# Altium schematic symbol library SCH - MCU - STM32 - ST MICROELECTRONICS STM32MP133AAGX TFBGA289.SchLib: 1 symbol
Pins are listed as number, name and electrical type; pins without a type are passive.

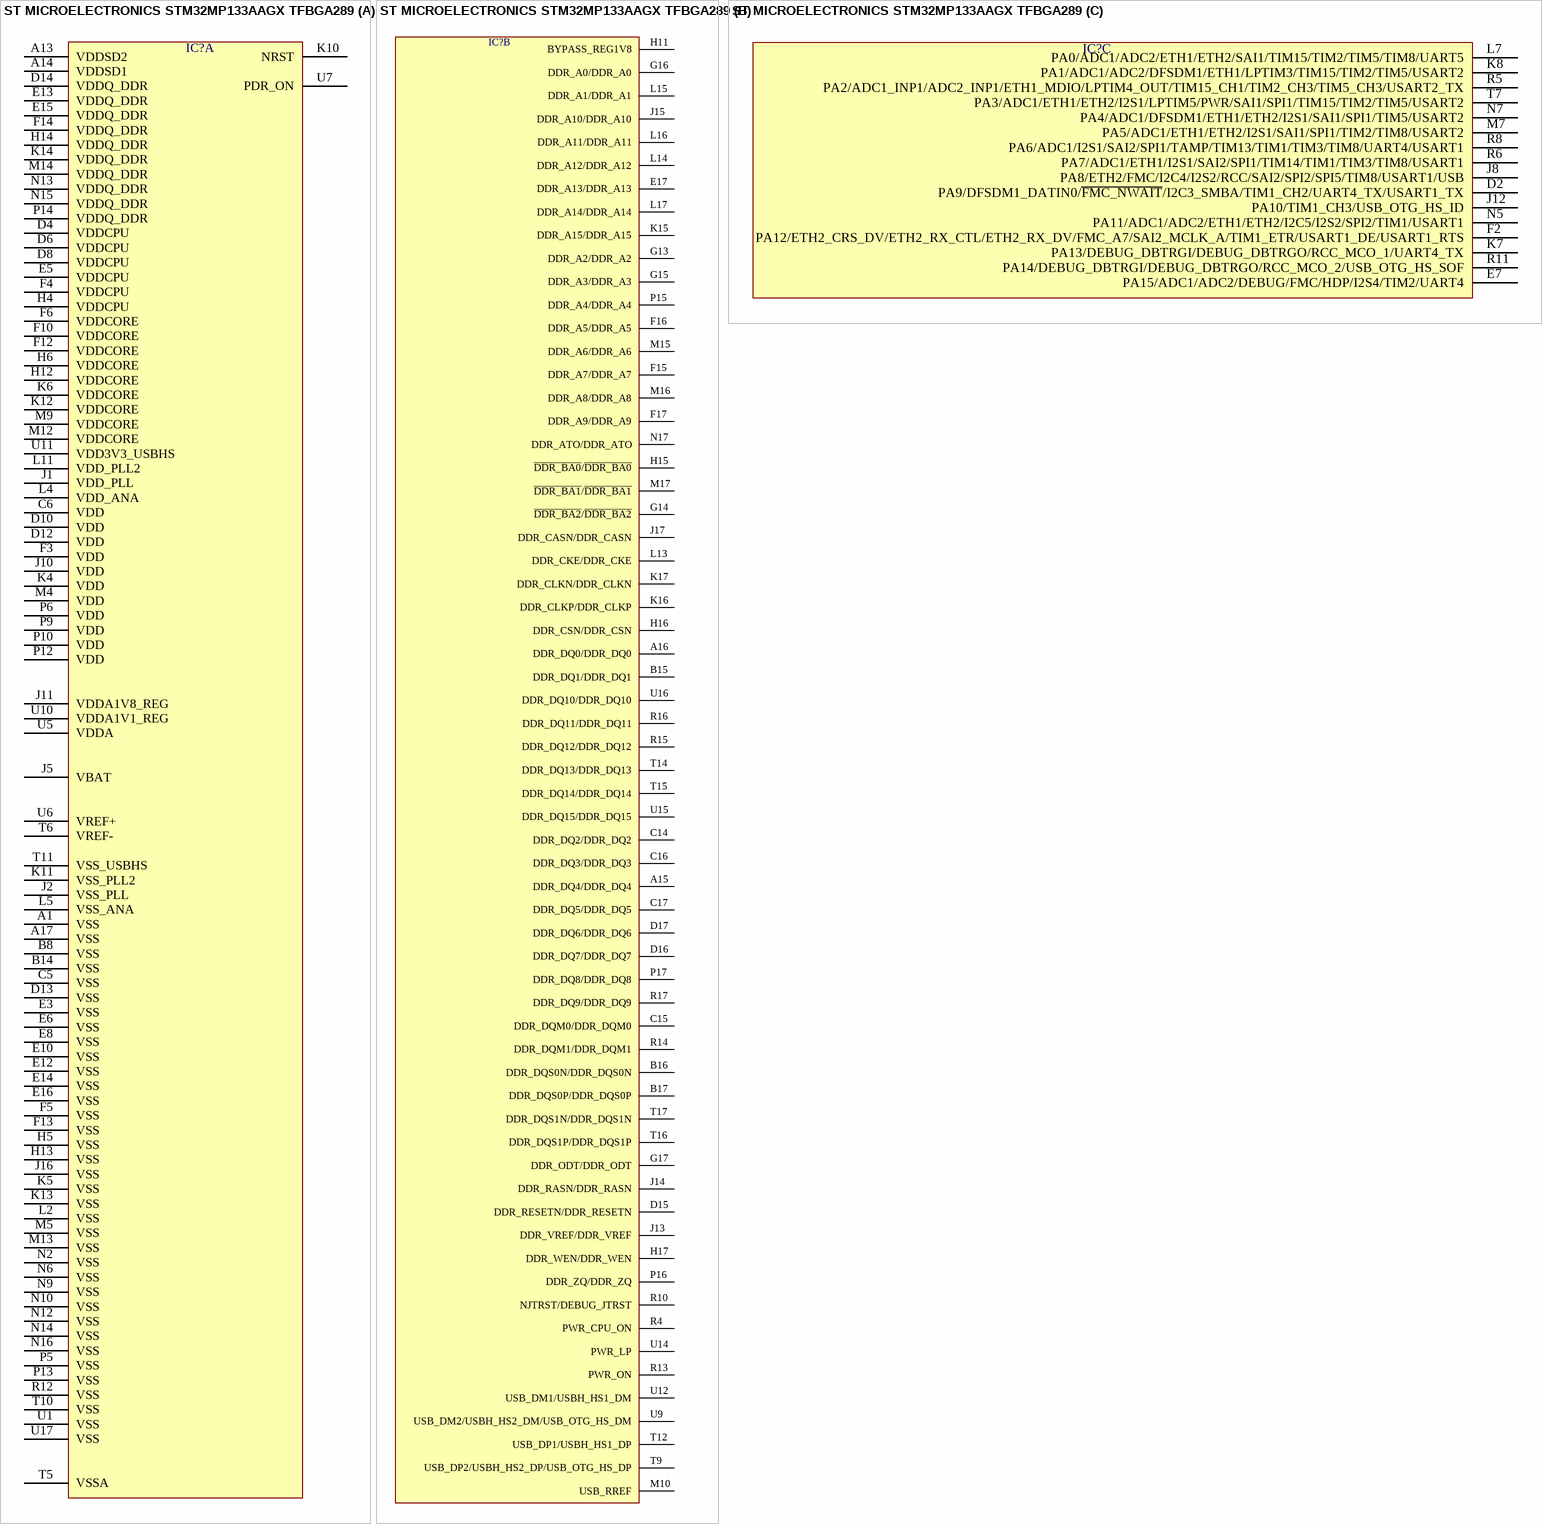
[diagram p0: symbol ST MICROELECTRONICS STM32MP133AAGX TFBGA289]

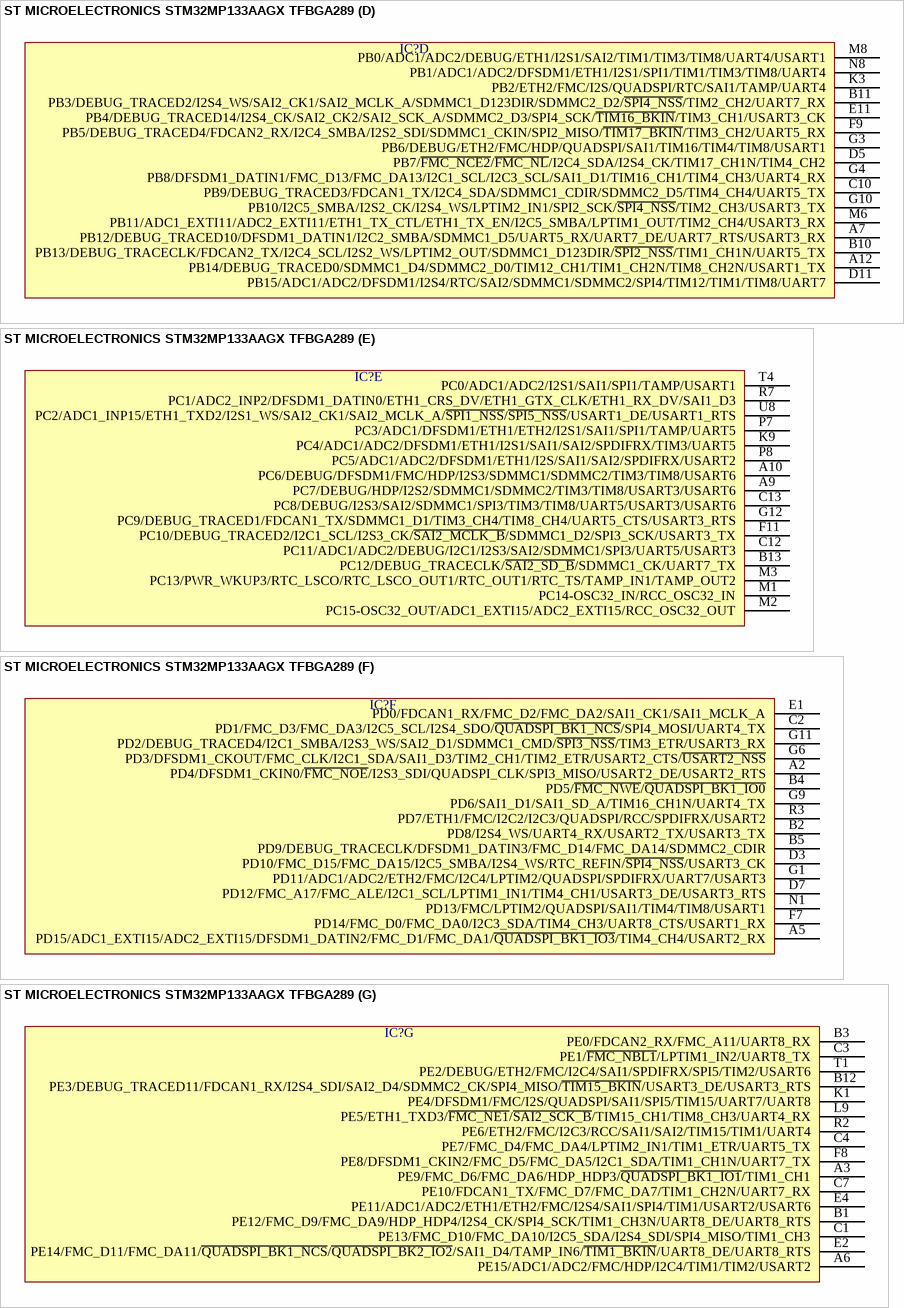
[diagram p1: symbol ST MICROELECTRONICS STM32MP133AAGX TFBGA289]

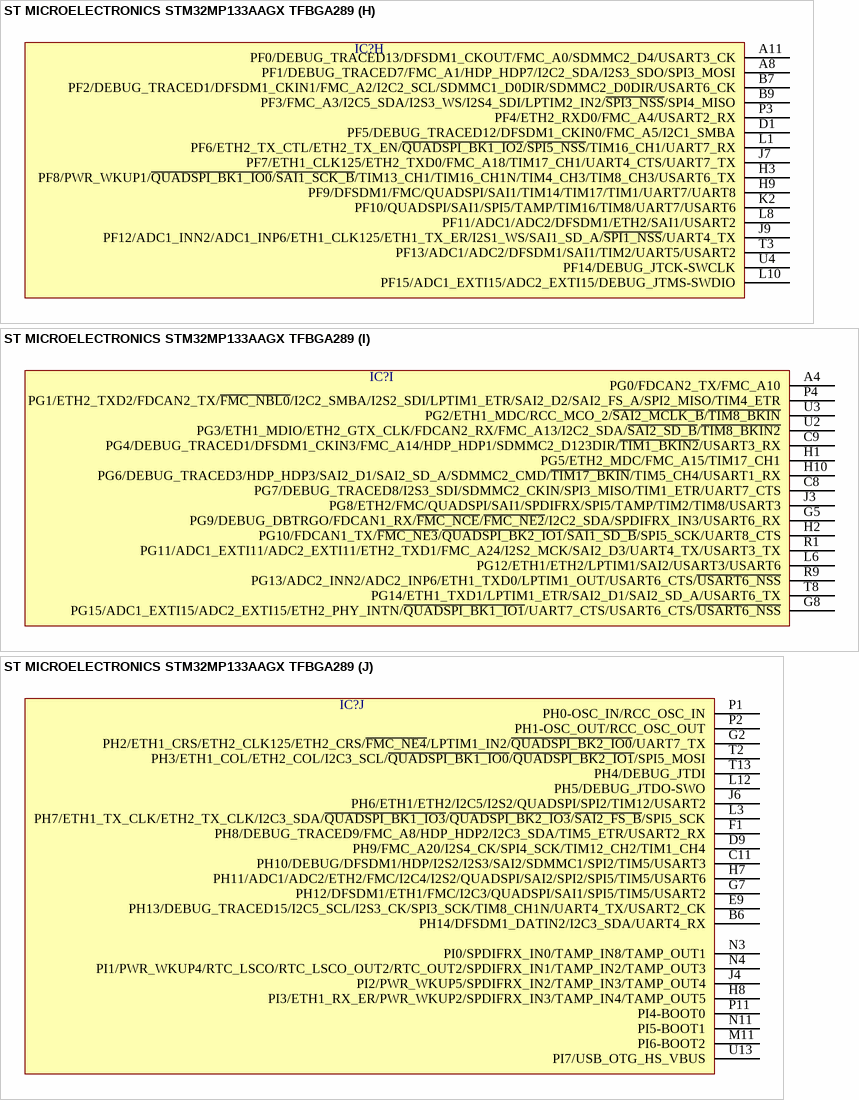
[diagram p2: symbol ST MICROELECTRONICS STM32MP133AAGX TFBGA289]

## ST MICROELECTRONICS STM32MP133AAGX TFBGA289
designator IC?  (value not drawn)
part A pins: A1 VSS, A13 VDDSD2, A14 VDDSD1, A17 VSS, B8 VSS, B14 VSS, C5 VSS, C6 VDD, D4 VDDCPU, D6 VDDCPU, D8 VDDCPU, D10 VDD, D12 VDD, D13 VSS, D14 VDDQ_DDR, E3 VSS, E5 VDDCPU, E6 VSS, E8 VSS, E10 VSS, E12 VSS, E13 VDDQ_DDR, E14 VSS, E15 VDDQ_DDR, E16 VSS, F3 VDD, F4 VDDCPU, F5 VSS, F6 VDDCORE, F10 VDDCORE, F12 VDDCORE, F13 VSS, F14 VDDQ_DDR, H4 VDDCPU, H5 VSS, H6 VDDCORE, H12 VDDCORE, H13 VSS, H14 VDDQ_DDR, J1 VDD_PLL, J2 VSS_PLL, J5 VBAT, J10 VDD, J11 VDDA1V8_REG, J16 VSS, K4 VDD, K5 VSS, K6 VDDCORE, K10 NRST, K11 VSS_PLL2, K12 VDDCORE, K13 VSS, K14 VDDQ_DDR, L2 VSS, L4 VDD_ANA, L5 VSS_ANA, L11 VDD_PLL2, M4 VDD, M5 VSS, M9 VDDCORE, M12 VDDCORE, M13 VSS, M14 VDDQ_DDR, N2 VSS, N6 VSS, N9 VSS, N10 VSS, N12 VSS, N13 VDDQ_DDR, N14 VSS, N15 VDDQ_DDR, N16 VSS, P5 VSS, P6 VDD, P9 VDD, P10 VDD, P12 VDD, P13 VSS, P14 VDDQ_DDR, R12 VSS, T5 VSSA, T6 VREF-, T10 VSS, T11 VSS_USBHS, U1 VSS, U5 VDDA, U6 VREF+, U7 PDR_ON, U10 VDDA1V1_REG, U11 VDD3V3_USBHS, U17 VSS
part B pins: A15 DDR_DQ4/DDR_DQ4, A16 DDR_DQ0/DDR_DQ0, B15 DDR_DQ1/DDR_DQ1, B16 DDR_DQS0N/DDR_DQS0N, B17 DDR_DQS0P/DDR_DQS0P, C14 DDR_DQ2/DDR_DQ2, C15 DDR_DQM0/DDR_DQM0, C16 DDR_DQ3/DDR_DQ3, C17 DDR_DQ5/DDR_DQ5, D15 DDR_RESETN/DDR_RESETN, D16 DDR_DQ7/DDR_DQ7, D17 DDR_DQ6/DDR_DQ6, E17 DDR_A13/DDR_A13, F15 DDR_A7/DDR_A7, F16 DDR_A5/DDR_A5, F17 DDR_A9/DDR_A9, G13 DDR_A2/DDR_A2, G14 ~{DDR_BA2}/~{DDR_BA2}, G15 DDR_A3/DDR_A3, G16 DDR_A0/DDR_A0, G17 DDR_ODT/DDR_ODT, H11 BYPASS_REG1V8, H15 ~{DDR_BA0}/~{DDR_BA0}, H16 DDR_CSN/DDR_CSN, H17 DDR_WEN/DDR_WEN, J13 DDR_VREF/DDR_VREF, J14 DDR_RASN/DDR_RASN, J15 DDR_A10/DDR_A10, J17 DDR_CASN/DDR_CASN, K15 DDR_A15/DDR_A15, K16 DDR_CLKP/DDR_CLKP, K17 DDR_CLKN/DDR_CLKN, L13 DDR_CKE/DDR_CKE, L14 DDR_A12/DDR_A12, L15 DDR_A1/DDR_A1, L16 DDR_A11/DDR_A11, L17 DDR_A14/DDR_A14, M10 USB_RREF, M15 DDR_A6/DDR_A6, M16 DDR_A8/DDR_A8, M17 ~{DDR_BA1}/~{DDR_BA1}, N17 DDR_ATO/DDR_ATO, P15 DDR_A4/DDR_A4, P16 DDR_ZQ/DDR_ZQ, P17 DDR_DQ8/DDR_DQ8, R4 PWR_CPU_ON, R10 NJTRST/DEBUG_JTRST, R13 PWR_ON, R14 DDR_DQM1/DDR_DQM1, R15 DDR_DQ12/DDR_DQ12, R16 DDR_DQ11/DDR_DQ11, R17 DDR_DQ9/DDR_DQ9, T9 USB_DP2/USBH_HS2_DP/USB_OTG_HS_DP, T12 USB_DP1/USBH_HS1_DP, T14 DDR_DQ13/DDR_DQ13, T15 DDR_DQ14/DDR_DQ14, T16 DDR_DQS1P/DDR_DQS1P, T17 DDR_DQS1N/DDR_DQS1N, U9 USB_DM2/USBH_HS2_DM/USB_OTG_HS_DM, U12 USB_DM1/USBH_HS1_DM, U14 PWR_LP, U15 DDR_DQ15/DDR_DQ15, U16 DDR_DQ10/DDR_DQ10
part C pins: D2 PA9/DFSDM1_DATIN0/~{FMC_NWAIT}/I2C3_SMBA/TIM1_CH2/UART4_TX/USART1_TX, E7 PA15/ADC1/ADC2/DEBUG/FMC/HDP/I2S4/TIM2/UART4, F2 PA12/ETH2_CRS_DV/ETH2_RX_CTL/ETH2_RX_DV/FMC_A7/SAI2_MCLK_A/TIM1_ETR/USART1_DE/USART1_RTS, J8 PA8/ETH2/FMC/I2C4/I2S2/RCC/SAI2/SPI2/SPI5/TIM8/USART1/USB, J12 PA10/TIM1_CH3/USB_OTG_HS_ID, K7 PA13/DEBUG_DBTRGI/DEBUG_DBTRGO/RCC_MCO_1/UART4_TX, K8 PA1/ADC1/ADC2/DFSDM1/ETH1/LPTIM3/TIM15/TIM2/TIM5/USART2, L7 PA0/ADC1/ADC2/ETH1/ETH2/SAI1/TIM15/TIM2/TIM5/TIM8/UART5, M7 PA5/ADC1/ETH1/ETH2/I2S1/SAI1/SPI1/TIM2/TIM8/USART2, N5 PA11/ADC1/ADC2/ETH1/ETH2/I2C5/I2S2/SPI2/TIM1/USART1, N7 PA4/ADC1/DFSDM1/ETH1/ETH2/I2S1/SAI1/SPI1/TIM5/USART2, R5 PA2/ADC1_INP1/ADC2_INP1/ETH1_MDIO/LPTIM4_OUT/TIM15_CH1/TIM2_CH3/TIM5_CH3/USART2_TX, R6 PA7/ADC1/ETH1/I2S1/SAI2/SPI1/TIM14/TIM1/TIM3/TIM8/USART1, R8 PA6/ADC1/I2S1/SAI2/SPI1/TAMP/TIM13/TIM1/TIM3/TIM8/UART4/USART1, R11 PA14/DEBUG_DBTRGI/DEBUG_DBTRGO/RCC_MCO_2/USB_OTG_HS_SOF, T7 PA3/ADC1/ETH1/ETH2/I2S1/LPTIM5/PWR/SAI1/SPI1/TIM15/TIM2/TIM5/USART2
part D pins: A7 PB12/DEBUG_TRACED10/DFSDM1_DATIN1/I2C2_SMBA/SDMMC1_D5/UART5_RX/UART7_DE/UART7_RTS/USART3_RX, A12 PB14/DEBUG_TRACED0/SDMMC1_D4/SDMMC2_D0/TIM12_CH1/TIM1_CH2N/TIM8_CH2N/USART1_TX, B10 PB13/DEBUG_TRACECLK/FDCAN2_TX/I2C4_SCL/I2S2_WS/LPTIM2_OUT/SDMMC1_D123DIR/~{SPI2_NSS}/TIM1_CH1N/UART5_TX, B11 PB3/DEBUG_TRACED2/I2S4_WS/SAI2_CK1/SAI2_MCLK_A/SDMMC1_D123DIR/SDMMC2_D2/~{SPI4_NSS}/TIM2_CH2/UART7_RX, C10 PB9/DEBUG_TRACED3/FDCAN1_TX/I2C4_SDA/SDMMC1_CDIR/SDMMC2_D5/TIM4_CH4/UART5_TX, D5 PB7/~{FMC_NCE2}/~{FMC_NL}/I2C4_SDA/I2S4_CK/TIM17_CH1N/TIM4_CH2, D11 PB15/ADC1/ADC2/DFSDM1/I2S4/RTC/SAI2/SDMMC1/SDMMC2/SPI4/TIM12/TIM1/TIM8/UART7, E11 PB4/DEBUG_TRACED14/I2S4_CK/SAI2_CK2/SAI2_SCK_A/SDMMC2_D3/SPI4_SCK/~{TIM16_BKIN}/TIM3_CH1/USART3_CK, F9 PB5/DEBUG_TRACED4/FDCAN2_RX/I2C4_SMBA/I2S2_SDI/SDMMC1_CKIN/SPI2_MISO/~{TIM17_BKIN}/TIM3_CH2/UART5_RX, G3 PB6/DEBUG/ETH2/FMC/HDP/QUADSPI/SAI1/TIM16/TIM4/TIM8/USART1, G4 PB8/DFSDM1_DATIN1/FMC_D13/FMC_DA13/I2C1_SCL/I2C3_SCL/SAI1_D1/TIM16_CH1/TIM4_CH3/UART4_RX, G10 PB10/I2C5_SMBA/I2S2_CK/I2S4_WS/LPTIM2_IN1/SPI2_SCK/~{SPI4_NSS}/TIM2_CH3/USART3_TX, K3 PB2/ETH2/FMC/I2S/QUADSPI/RTC/SAI1/TAMP/UART4, M6 PB11/ADC1_EXTI11/ADC2_EXTI11/ETH1_TX_CTL/ETH1_TX_EN/I2C5_SMBA/LPTIM1_OUT/TIM2_CH4/USART3_RX, M8 PB0/ADC1/ADC2/DEBUG/ETH1/I2S1/SAI2/TIM1/TIM3/TIM8/UART4/USART1, N8 PB1/ADC1/ADC2/DFSDM1/ETH1/I2S1/SPI1/TIM1/TIM3/TIM8/UART4
part E pins: A9 PC7/DEBUG/HDP/I2S2/SDMMC1/SDMMC2/TIM3/TIM8/USART3/USART6, A10 PC6/DEBUG/DFSDM1/FMC/HDP/I2S3/SDMMC1/SDMMC2/TIM3/TIM8/USART6, B13 PC12/DEBUG_TRACECLK/~{SAI2_SD_B}/SDMMC1_CK/UART7_TX, C12 PC11/ADC1/ADC2/DEBUG/I2C1/I2S3/SAI2/SDMMC1/SPI3/UART5/USART3, C13 PC8/DEBUG/I2S3/SAI2/SDMMC1/SPI3/TIM3/TIM8/UART5/USART3/USART6, F11 PC10/DEBUG_TRACED2/I2C1_SCL/I2S3_CK/~{SAI2_MCLK_B}/SDMMC1_D2/SPI3_SCK/USART3_TX, G12 PC9/DEBUG_TRACED1/FDCAN1_TX/SDMMC1_D1/TIM3_CH4/TIM8_CH4/UART5_CTS/USART3_RTS, K9 PC4/ADC1/ADC2/DFSDM1/ETH1/I2S1/SAI1/SAI2/SPDIFRX/TIM3/UART5, M1 PC14-OSC32_IN/RCC_OSC32_IN, M2 PC15-OSC32_OUT/ADC1_EXTI15/ADC2_EXTI15/RCC_OSC32_OUT, M3 PC13/PWR_WKUP3/RTC_LSCO/RTC_LSCO_OUT1/RTC_OUT1/RTC_TS/TAMP_IN1/TAMP_OUT2, P7 PC3/ADC1/DFSDM1/ETH1/ETH2/I2S1/SAI1/SPI1/TAMP/UART5, P8 PC5/ADC1/ADC2/DFSDM1/ETH1/I2S/SAI1/SAI2/SPDIFRX/USART2, R7 PC1/ADC2_INP2/DFSDM1_DATIN0/ETH1_CRS_DV/ETH1_GTX_CLK/ETH1_RX_DV/SAI1_D3, T4 PC0/ADC1/ADC2/I2S1/SAI1/SPI1/TAMP/USART1, U8 PC2/ADC1_INP15/ETH1_TXD2/I2S1_WS/SAI2_CK1/SAI2_MCLK_A/~{SPI1_NSS}/~{SPI5_NSS}/USART1_DE/USART1_RTS
part F pins: A2 PD4/DFSDM1_CKIN0/~{FMC_NOE}/I2S3_SDI/QUADSPI_CLK/SPI3_MISO/USART2_DE/USART2_RTS, A5 PD15/ADC1_EXTI15/ADC2_EXTI15/DFSDM1_DATIN2/FMC_D1/FMC_DA1/~{QUADSPI_BK1_IO3}/TIM4_CH4/USART2_RX, B2 PD8/I2S4_WS/UART4_RX/USART2_TX/USART3_TX, B4 PD5/~{FMC_NWE}/~{QUADSPI_BK1_IO0}, B5 PD9/DEBUG_TRACECLK/DFSDM1_DATIN3/FMC_D14/FMC_DA14/SDMMC2_CDIR, C2 PD1/FMC_D3/FMC_DA3/I2C5_SCL/I2S4_SDO/~{QUADSPI_BK1_NCS}/SPI4_MOSI/UART4_TX, D3 PD10/FMC_D15/FMC_DA15/I2C5_SMBA/I2S4_WS/RTC_REFIN/~{SPI4_NSS}/USART3_CK, D7 PD12/FMC_A17/FMC_ALE/I2C1_SCL/LPTIM1_IN1/TIM4_CH1/USART3_DE/USART3_RTS, E1 PD0/FDCAN1_RX/FMC_D2/FMC_DA2/SAI1_CK1/SAI1_MCLK_A, F7 PD14/FMC_D0/FMC_DA0/I2C3_SDA/TIM4_CH3/UART8_CTS/USART1_RX, G1 PD11/ADC1/ADC2/ETH2/FMC/I2C4/LPTIM2/QUADSPI/SPDIFRX/UART7/USART3, G6 PD3/DFSDM1_CKOUT/FMC_CLK/I2C1_SDA/SAI1_D3/TIM2_CH1/TIM2_ETR/USART2_CTS/~{USART2_NSS}, G9 PD6/SAI1_D1/SAI1_SD_A/TIM16_CH1N/UART4_TX, G11 PD2/DEBUG_TRACED4/I2C1_SMBA/I2S3_WS/SAI2_D1/SDMMC1_CMD/~{SPI3_NSS}/TIM3_ETR/USART3_RX, N1 PD13/FMC/LPTIM2/QUADSPI/SAI1/TIM4/TIM8/USART1, R3 PD7/ETH1/FMC/I2C2/I2C3/QUADSPI/RCC/SPDIFRX/USART2
part G pins: A3 PE9/FMC_D6/FMC_DA6/HDP_HDP3/~{QUADSPI_BK1_IO1}/TIM1_CH1, A6 PE15/ADC1/ADC2/FMC/HDP/I2C4/TIM1/TIM2/USART2, B1 PE12/FMC_D9/FMC_DA9/HDP_HDP4/I2S4_CK/SPI4_SCK/TIM1_CH3N/UART8_DE/UART8_RTS, B3 PE0/FDCAN2_RX/FMC_A11/UART8_RX, B12 PE3/DEBUG_TRACED11/FDCAN1_RX/I2S4_SDI/SAI2_D4/SDMMC2_CK/SPI4_MISO/~{TIM15_BKIN}/USART3_DE/USART3_RTS, C1 PE13/FMC_D10/FMC_DA10/I2C5_SDA/I2S4_SDI/SPI4_MISO/TIM1_CH3, C3 PE1/~{FMC_NBL1}/LPTIM1_IN2/UART8_TX, C4 PE7/FMC_D4/FMC_DA4/LPTIM2_IN1/TIM1_ETR/UART5_TX, C7 PE10/FDCAN1_TX/FMC_D7/FMC_DA7/TIM1_CH2N/UART7_RX, E2 PE14/FMC_D11/FMC_DA11/~{QUADSPI_BK1_NCS}/~{QUADSPI_BK2_IO2}/SAI1_D4/TAMP_IN6/~{TIM1_BKIN}/UART8_DE/UART8_RTS, E4 PE11/ADC1/ADC2/ETH1/ETH2/FMC/I2S4/SAI1/SPI4/TIM1/USART2/USART6, F8 PE8/DFSDM1_CKIN2/FMC_D5/FMC_DA5/I2C1_SDA/TIM1_CH1N/UART7_TX, K1 PE4/DFSDM1/FMC/I2S/QUADSPI/SAI1/SPI5/TIM15/UART7/UART8, L9 PE5/ETH1_TXD3/~{FMC_NE1}/~{SAI2_SCK_B}/TIM15_CH1/TIM8_CH3/UART4_RX, R2 PE6/ETH2/FMC/I2C3/RCC/SAI1/SAI2/TIM15/TIM1/UART4, T1 PE2/DEBUG/ETH2/FMC/I2C4/SAI1/SPDIFRX/SPI5/TIM2/USART6
part H pins: A8 PF1/DEBUG_TRACED7/FMC_A1/HDP_HDP7/I2C2_SDA/I2S3_SDO/SPI3_MOSI, A11 PF0/DEBUG_TRACED13/DFSDM1_CKOUT/FMC_A0/SDMMC2_D4/USART3_CK, B7 PF2/DEBUG_TRACED1/DFSDM1_CKIN1/FMC_A2/I2C2_SCL/SDMMC1_D0DIR/SDMMC2_D0DIR/USART6_CK, B9 PF3/FMC_A3/I2C5_SDA/I2S3_WS/I2S4_SDI/LPTIM2_IN2/~{SPI3_NSS}/SPI4_MISO, D1 PF5/DEBUG_TRACED12/DFSDM1_CKIN0/FMC_A5/I2C1_SMBA, H3 PF8/PWR_WKUP1/~{QUADSPI_BK1_IO0}/~{SAI1_SCK_B}/TIM13_CH1/TIM16_CH1N/TIM4_CH3/TIM8_CH3/USART6_TX, H9 PF9/DFSDM1/FMC/QUADSPI/SAI1/TIM14/TIM17/TIM1/UART7/UART8, J7 PF7/ETH1_CLK125/ETH2_TXD0/FMC_A18/TIM17_CH1/UART4_CTS/UART7_TX, J9 PF12/ADC1_INN2/ADC1_INP6/ETH1_CLK125/ETH1_TX_ER/I2S1_WS/SAI1_SD_A/~{SPI1_NSS}/UART4_TX, K2 PF10/QUADSPI/SAI1/SPI5/TAMP/TIM16/TIM8/UART7/USART6, L1 PF6/ETH2_TX_CTL/ETH2_TX_EN/~{QUADSPI_BK1_IO2}/~{SPI5_NSS}/TIM16_CH1/UART7_RX, L8 PF11/ADC1/ADC2/DFSDM1/ETH2/SAI1/USART2, L10 PF15/ADC1_EXTI15/ADC2_EXTI15/DEBUG_JTMS-SWDIO, P3 PF4/ETH2_RXD0/FMC_A4/USART2_RX, T3 PF13/ADC1/ADC2/DFSDM1/SAI1/TIM2/UART5/USART2, U4 PF14/DEBUG_JTCK-SWCLK
part I pins: A4 PG0/FDCAN2_TX/FMC_A10, C8 PG7/DEBUG_TRACED8/I2S3_SDI/SDMMC2_CKIN/SPI3_MISO/TIM1_ETR/UART7_CTS, C9 PG4/DEBUG_TRACED1/DFSDM1_CKIN3/FMC_A14/HDP_HDP1/SDMMC2_D123DIR/~{TIM1_BKIN2}/USART3_RX, G5 PG9/DEBUG_DBTRGO/FDCAN1_RX/~{FMC_NCE}/~{FMC_NE2}/I2C2_SDA/SPDIFRX_IN3/USART6_RX, G8 PG15/ADC1_EXTI15/ADC2_EXTI15/ETH2_PHY_INTN/~{QUADSPI_BK1_IO1}/UART7_CTS/USART6_CTS/~{USART6_NSS}, H1 PG5/ETH2_MDC/FMC_A15/TIM17_CH1, H2 PG10/FDCAN1_TX/~{FMC_NE3}/~{QUADSPI_BK2_IO1}/~{SAI1_SD_B}/SPI5_SCK/UART8_CTS, H10 PG6/DEBUG_TRACED3/HDP_HDP3/SAI2_D1/SAI2_SD_A/SDMMC2_CMD/~{TIM17_BKIN}/TIM5_CH4/USART1_RX, J3 PG8/ETH2/FMC/QUADSPI/SAI1/SPDIFRX/SPI5/TAMP/TIM2/TIM8/USART3, L6 PG12/ETH1/ETH2/LPTIM1/SAI2/USART3/USART6, P4 PG1/ETH2_TXD2/FDCAN2_TX/~{FMC_NBL0}/I2C2_SMBA/I2S2_SDI/LPTIM1_ETR/SAI2_D2/SAI2_FS_A/SPI2_MISO/TIM4_ETR, R1 PG11/ADC1_EXTI11/ADC2_EXTI11/ETH2_TXD1/FMC_A24/I2S2_MCK/SAI2_D3/UART4_TX/USART3_TX, R9 PG13/ADC2_INN2/ADC2_INP6/ETH1_TXD0/LPTIM1_OUT/USART6_CTS/~{USART6_NSS}, T8 PG14/ETH1_TXD1/LPTIM1_ETR/SAI2_D1/SAI2_SD_A/USART6_TX, U2 PG3/ETH1_MDIO/ETH2_GTX_CLK/FDCAN2_RX/FMC_A13/I2C2_SDA/~{SAI2_SD_B}/~{TIM8_BKIN2}, U3 PG2/ETH1_MDC/RCC_MCO_2/~{SAI2_MCLK_B}/~{TIM8_BKIN}
part J pins: B6 PH14/DFSDM1_DATIN2/I2C3_SDA/UART4_RX, C11 PH10/DEBUG/DFSDM1/HDP/I2S2/I2S3/SAI2/SDMMC1/SPI2/TIM5/USART3, D9 PH9/FMC_A20/I2S4_CK/SPI4_SCK/TIM12_CH2/TIM1_CH4, E9 PH13/DEBUG_TRACED15/I2C5_SCL/I2S3_CK/SPI3_SCK/TIM8_CH1N/UART4_TX/USART2_CK, F1 PH8/DEBUG_TRACED9/FMC_A8/HDP_HDP2/I2C3_SDA/TIM5_ETR/USART2_RX, G2 PH2/ETH1_CRS/ETH2_CLK125/ETH2_CRS/~{FMC_NE4}/LPTIM1_IN2/~{QUADSPI_BK2_IO0}/UART7_TX, G7 PH12/DFSDM1/ETH1/FMC/I2C3/QUADSPI/SAI1/SPI5/TIM5/USART2, H7 PH11/ADC1/ADC2/ETH2/FMC/I2C4/I2S2/QUADSPI/SAI2/SPI2/SPI5/TIM5/USART6, H8 PI3/ETH1_RX_ER/PWR_WKUP2/SPDIFRX_IN3/TAMP_IN4/TAMP_OUT5, J4 PI2/PWR_WKUP5/SPDIFRX_IN2/TAMP_IN3/TAMP_OUT4, J6 PH6/ETH1/ETH2/I2C5/I2S2/QUADSPI/SPI2/TIM12/USART2, L3 PH7/ETH1_TX_CLK/ETH2_TX_CLK/I2C3_SDA/~{QUADSPI_BK1_IO3}/~{QUADSPI_BK2_IO3}/~{SAI2_FS_B}/SPI5_SCK, L12 PH5/DEBUG_JTDO-SWO, M11 PI6-BOOT2, N3 PI0/SPDIFRX_IN0/TAMP_IN8/TAMP_OUT1, N4 PI1/PWR_WKUP4/RTC_LSCO/RTC_LSCO_OUT2/RTC_OUT2/SPDIFRX_IN1/TAMP_IN2/TAMP_OUT3, N11 PI5-BOOT1, P1 PH0-OSC_IN/RCC_OSC_IN, P2 PH1-OSC_OUT/RCC_OSC_OUT, P11 PI4-BOOT0, T2 PH3/ETH1_COL/ETH2_COL/I2C3_SCL/~{QUADSPI_BK1_IO0}/~{QUADSPI_BK2_IO1}/SPI5_MOSI, T13 PH4/DEBUG_JTDI, U13 PI7/USB_OTG_HS_VBUS